# Altium schematic symbol library Cap 330uF 35V ELCO SMD.SchLib: 2 symbols
Pins are listed as number, name and electrical type; pins without a type are passive.

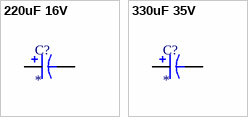
[diagram p0: symbols 220uF 16V to 330uF 35V]

## 220uF 16V
designator C?
footprint CAP 220uF 16V (Aluminum Electrolytic Capacitor, Body 8,20x8,20x10,20mm, IPC Low Density)
pins: 1, 2

## 330uF 35V
designator C?
footprint CAP 330uF 35V SMD (Aluminum Electrolytic Capacitor, Body 10,20x10,20x10,20mm, IPC Low Density)
pins: 1, 2